# Altium footprint library MAIN_PCH.PcbLib: 24 footprints (part 2 of 2)
Each footprint in its own frame and in the unit in brackets; x right, y up, seen from the top. Pads: shape width x height; smd on the part's side, far side on the other; paste and mask are expansions set on the pad; w line width, h text height; cw(c..) or ccw(c..) is an arc to the next point about the centre after c.
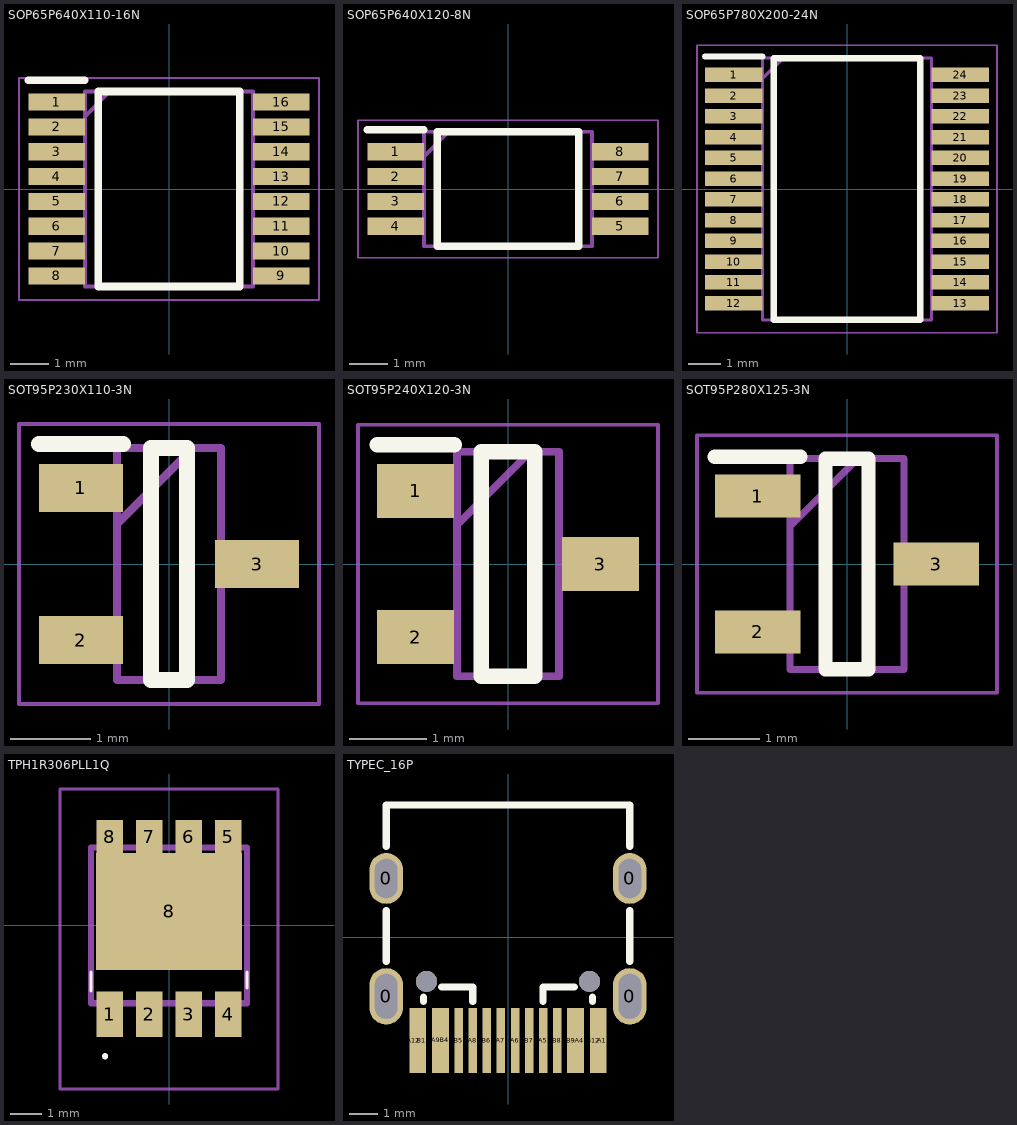
[diagram p1: the footprints below, top view; thin cyan lines are the x and y axes]

## SOP65P640X110-16N [mm]
pads (16):
  rect 1.475x0.45 smd: 1(-2.938,2.275) 2(-2.938,1.625) 3(-2.938,0.975) 4(-2.938,0.325) 5(-2.938,-0.325) 6(-2.938,-0.975) 7(-2.938,-1.625) 8(-2.938,-2.275) 9(2.938,-2.275) 10(2.938,-1.625) 11(2.938,-0.975) 12(2.938,-0.325) 13(2.938,0.325) 14(2.938,0.975) 15(2.938,1.625) 16(2.938,2.275)
Top Overlay:
  lines w0.2: -3.675,2.85 -2.2,2.85 ; -1.85,-2.55 -1.85,2.55 1.85,2.55 1.85,-2.55 -1.85,-2.55
Mechanical 13:
  lines w0.1: -2.2,1.9 -1.55,2.55 ; -2.2,-2.55 -2.2,2.55 2.2,2.55 2.2,-2.55 -2.2,-2.55
Mechanical 15:
  lines w0.05: -3.925,-2.9 -3.925,2.9 3.925,2.9 3.925,-2.9 -3.925,-2.9
3D body "S-8254AAKFT-TB-U.stp": height 1.1, standoff 0, extent -3.2,-2.55 3.2,2.55

## SOP65P640X120-8N [mm]
pads (8):
  rect 1.475x0.45 smd: 1(-2.938,0.975) 2(-2.938,0.325) 3(-2.938,-0.325) 4(-2.938,-0.975) 5(2.938,-0.975) 6(2.938,-0.325) 7(2.938,0.325) 8(2.938,0.975)
Top Overlay:
  lines w0.2: -3.675,1.55 -2.2,1.55 ; -1.85,-1.5 1.85,-1.5 1.85,1.5 -1.85,1.5 -1.85,-1.5
Mechanical 13:
  lines w0.1: -2.2,0.85 -1.55,1.5 ; -2.2,-1.5 2.2,-1.5 2.2,1.5 -2.2,1.5 -2.2,-1.5
Mechanical 15:
  lines w0.05: -3.925,-1.8 3.925,-1.8 3.925,1.8 -3.925,1.8 -3.925,-1.8
3D body "INA139QPWRQ1.stp": height 1.2, standoff 0, extent -3.2,-1.5 3.2,1.5

## SOP65P780X200-24N [mm]
pads (24):
  rect 1.8x0.45 smd: 1(-3.55,3.575) 2(-3.55,2.925) 3(-3.55,2.275) 4(-3.55,1.625) 5(-3.55,0.975) 6(-3.55,0.325) 7(-3.55,-0.325) 8(-3.55,-0.975) 9(-3.55,-1.625) 10(-3.55,-2.275) 11(-3.55,-2.925) 12(-3.55,-3.575) 13(3.55,-3.575) 14(3.55,-2.925) 15(3.55,-2.275) 16(3.55,-1.625) 17(3.55,-0.975) 18(3.55,-0.325) 19(3.55,0.325) 20(3.55,0.975) 21(3.55,1.625) 22(3.55,2.275) 23(3.55,2.925) 24(3.55,3.575)
Top Overlay:
  lines w0.2: -4.45,4.15 -2.65,4.15 ; -2.3,-4.1 -2.3,4.1 2.3,4.1 2.3,-4.1 -2.3,-4.1
Mechanical 13:
  lines w0.1: -2.65,3.45 -2,4.1 ; -2.65,-4.1 -2.65,4.1 2.65,4.1 2.65,-4.1 -2.65,-4.1
Mechanical 15:
  lines w0.05: -4.7,-4.5 -4.7,4.5 4.7,4.5 4.7,-4.5 -4.7,-4.5
3D body "LTC3780EG#TRPBF.stp": height 2, standoff 0, extent -3.9,-4.1 3.9,4.1

## SOT95P230X110-3N [mm]
pads (3):
  rect 1.05x0.6 smd: 1(-1.1,0.95) 2(-1.1,-0.95) 3(1.1,0)
Top Overlay:
  lines w0.2: -1.625,1.5 -0.575,1.5 ; -0.225,-1.45 0.225,-1.45 0.225,1.45 -0.225,1.45 -0.225,-1.45
Mechanical 13:
  lines w0.1: -0.65,0.5 0.3,1.45 ; -0.65,-1.45 0.65,-1.45 0.65,1.45 -0.65,1.45 -0.65,-1.45
Mechanical 15:
  lines w0.05: -1.875,-1.75 1.875,-1.75 1.875,1.75 -1.875,1.75 -1.875,-1.75
3D body "MMBD4148,215.stp": height 0.95, standoff 0, extent -1.201,-1.448 1.199,1.452

## SOT95P240X120-3N [mm]
pads (3):
  rect 1x0.7 smd: 1(-1.2,0.95) 2(-1.2,-0.95) 3(1.2,0)
Top Overlay:
  lines w0.2: -1.7,1.55 -0.7,1.55 ; -0.35,-1.46 -0.35,1.46 0.35,1.46 0.35,-1.46 -0.35,-1.46
Mechanical 13:
  lines w0.1: -0.662,0.51 0.288,1.46 ; -0.662,-1.46 -0.662,1.46 0.662,1.46 0.662,-1.46 -0.662,-1.46
Mechanical 15:
  lines w0.05: -1.95,-1.81 -1.95,1.81 1.95,1.81 1.95,-1.81 -1.95,-1.81
3D body "MMBD4148SE.stp": height 1.2, standoff 0, extent -1.2,-1.46 1.2,1.46

## SOT95P280X125-3N [mm]
pads (3):
  rect 1.2x0.6 smd: 1(-1.25,0.95) 2(-1.25,-0.95) 3(1.25,0)
Top Overlay:
  lines w0.2: -1.85,1.5 -0.65,1.5 ; -0.3,-1.475 0.3,-1.475 0.3,1.475 -0.3,1.475 -0.3,-1.475
Mechanical 13:
  lines w0.1: -0.8,0.525 0.15,1.475 ; -0.8,-1.475 0.8,-1.475 0.8,1.475 -0.8,1.475 -0.8,-1.475
Mechanical 15:
  lines w0.05: -2.1,-1.8 2.1,-1.8 2.1,1.8 -2.1,1.8 -2.1,-1.8
3D body "AO3400.stp": height 1.25, standoff 0, extent -1.4,-1.475 1.4,1.475

## TPH1R306PLL1Q [mm]
pads (9):
  rect 0.85x1.45 smd: 1(-1.905,-2.85) 2(-0.635,-2.85) 3(0.635,-2.85) 4(1.905,-2.85)
  rect 0.85x1.05 smd: 5(1.905,2.85) 6(0.635,2.85) 7(-0.635,2.85) 8(-1.905,2.85)
  rect 4.7x3.75 smd: 8(0,0.45)
Top Overlay:
  lines w0.1: -2.5,-2.1 -2.5,-1.5 ; 2.5,-2 2.5,-1.5 ; -2.1,-4.2 cw(c-2.05,-4.2) -2,-4.2 cw(c-2.05,-4.2) -2.1,-4.2
Mechanical 13:
  lines w0.2: -2.5,-2.5 -2.5,2.5 2.5,2.5 2.5,-2.5 -2.5,-2.5
Mechanical 15:
  lines w0.1: -3.5,-5.25 -3.5,4.375 3.5,4.375 3.5,-5.25 -3.5,-5.25
3D body "TPH1R005PL,L1Q.stp": height 1.1, standoff 0, extent -2.5,-3.49 2.5,3.29

## TYPEC_16P [mm]
pads (22):
  oval 1.2x2 hole 0.8 slot 1.6 at 90 deg: 0(-4.32,-2.096) 0(4.32,-2.096)
  oval 1.2x1.8 hole 0.8 slot 1.4 at 90 deg: 0(-4.32,2.084) 0(4.32,2.084)
  rect 0.3x2.3 smd: A1(3.35,-3.663) A4(2.55,-3.663) A5(1.25,-3.663) A6(0.25,-3.663) A7(-0.25,-3.663) A8(-1.25,-3.663) A9(-2.55,-3.663) A12(-3.35,-3.663) B1(-3.05,-3.663) B4(-2.25,-3.663) B5(-1.75,-3.663) B6(-0.75,-3.663) B7(0.75,-3.663) B8(1.75,-3.663) B9(2.25,-3.663) B12(3.05,-3.663)
  round 0.75 hole 0.75 unplated: ""(-2.89,-1.566) ""(2.89,-1.566)
Top Overlay:
  lines w0.254: -4.32,-0.865 -4.32,0.953 ; -4.32,3.215 -4.32,4.687 4.32,4.687 4.32,3.215 ; -3,-2.282 -3,-2.123 ; -2.357,-1.761 -1.25,-1.761 -1.25,-2.282 ; 1.247,-2.283 1.247,-1.763 2.357,-1.763 ; 2.997,-2.282 2.997,-2.124 ; 4.32,-0.865 4.32,0.953
3D body "USB Type C Port (SMD Type).STEP": height 3.2, standoff -1, extent -4.47,-3.201 4.47,4.699